# Altium footprint library accessPoint.PcbLib: 19 footprints (part 1 of 2)
Each footprint in its own frame and in the unit in brackets; x right, y up, seen from the top. Pads: shape width x height; smd on the part's side, far side on the other; paste and mask are expansions set on the pad; w line width, h text height; cw(c..) or ccw(c..) is an arc to the next point about the centre after c.
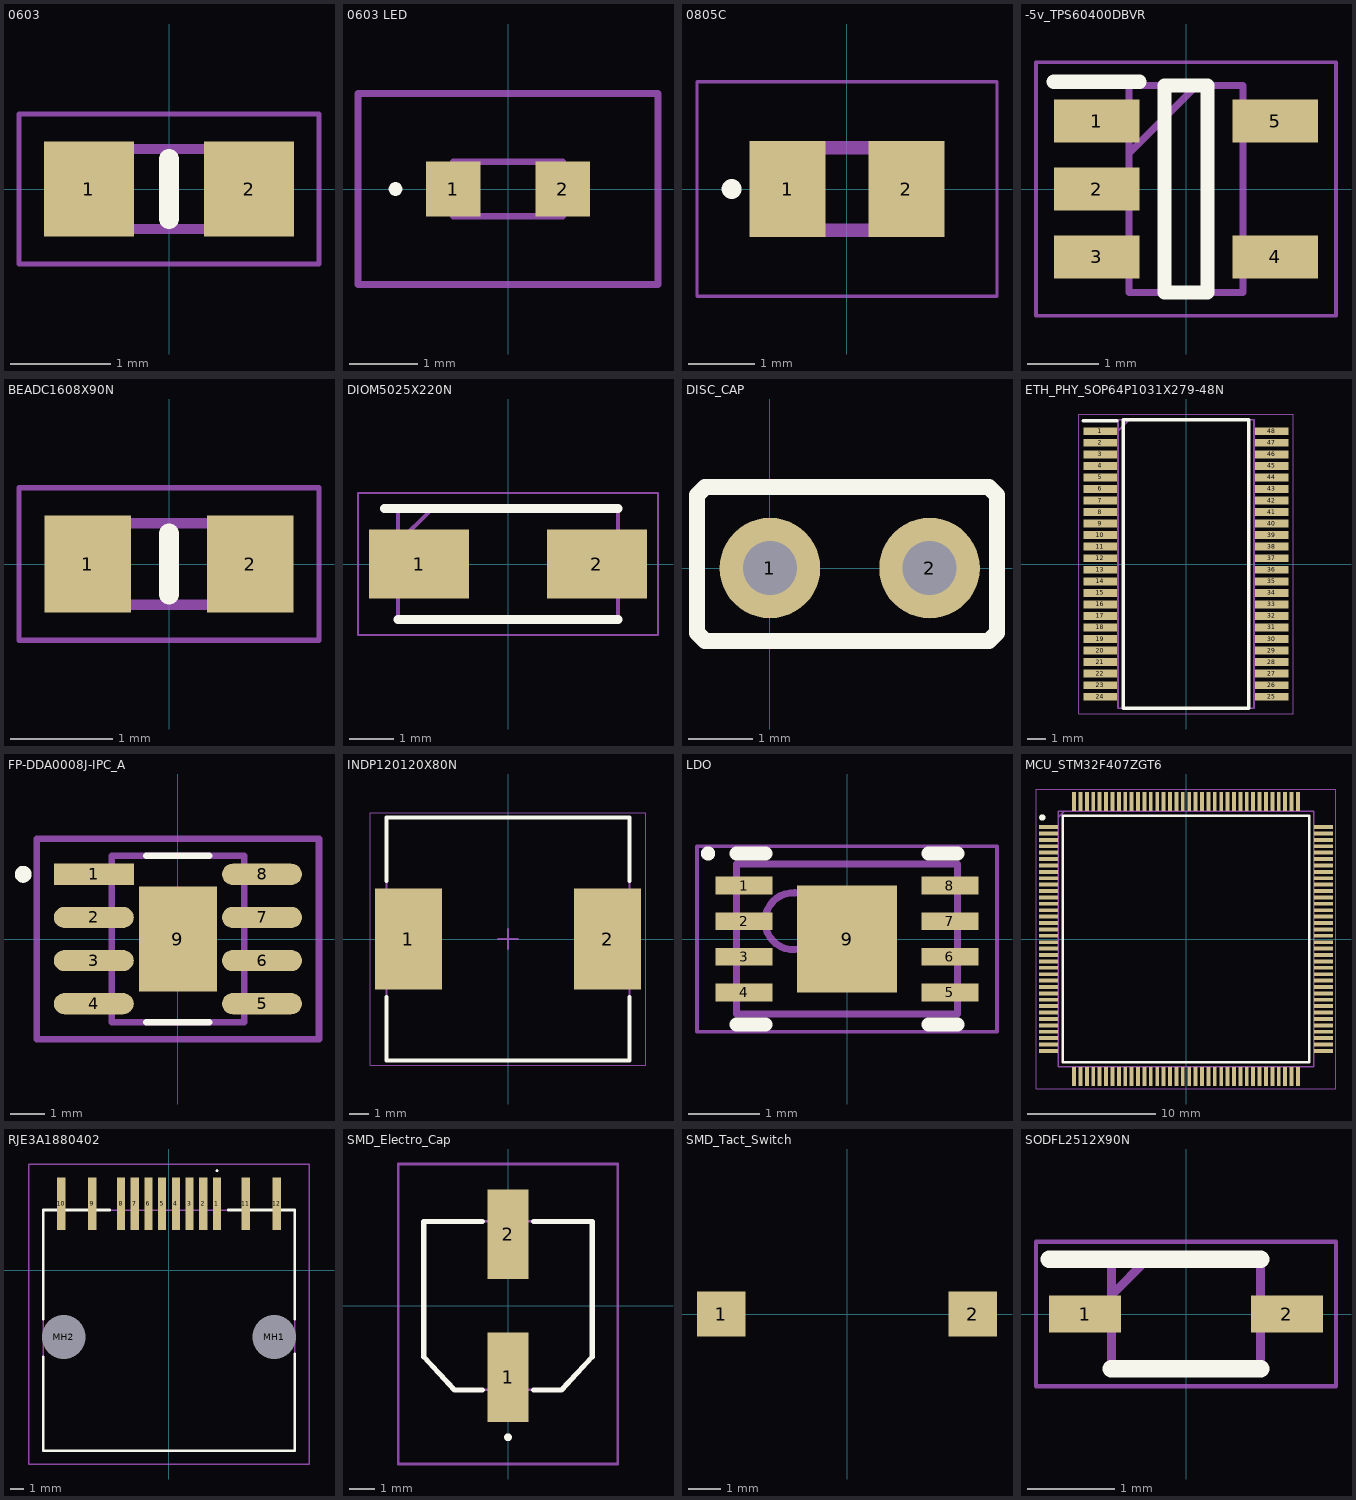
[diagram p0: the footprints below, top view; thin cyan lines are the x and y axes]

## 0603 [mm]
pads (2):
  rect 0.9x0.95 smd: 1(-0.8,0) 2(0.8,0)
Top Overlay:
  lines w0.2: 0,-0.3 0,0.3
Mechanical 13:
  lines w0.1: -0.8,-0.4 0.8,-0.4 0.8,0.4 -0.8,0.4 -0.8,-0.4
Mechanical 15:
  lines w0.05: -1.5,-0.75 1.5,-0.75 1.5,0.75 -1.5,0.75 -1.5,-0.75
3D body "CR0603-J_-9R1ELF.stp": height 0.55, standoff 0, extent -0.8,-0.4 0.8,0.4

## 0603 LED [mm]
pads (2):
  rect 0.8x0.8 smd: 1(-0.8,0) 2(0.8,0)
Top Overlay:
  lines w0.1: -1.7,0 ccw(c-1.65,0) -1.6,0 ccw(c-1.65,0) -1.7,0
Mechanical 13:
  lines w0.1: -0.8,-0.4 -0.8,0.4 0.8,0.4 0.8,-0.4 -0.8,-0.4
Mechanical 15:
  lines w0.1: -2.2,-1.4 -2.2,1.4 2.2,1.4 2.2,-1.4 -2.2,-1.4
3D body "150060VS75003.stp": height 0.9, standoff 0, extent -0.8,-0.4 0.8,0.4

## 0805C [mm]
pads (2):
  rect 1.15x1.45 smd: 1(-0.9,0) 2(0.9,0)
Top Overlay:
  circle w0.2: c-1.75,0 r0.05
Mechanical 13:
  lines w0.2: -1,-0.625 1,-0.625 1,0.625 -1,0.625 -1,-0.625
Mechanical 15:
  lines w0.05: -2.275,-1.625 2.275,-1.625 2.275,1.625 -2.275,1.625 -2.275,-1.625
3D body "C0805C103K1RACTU.stp": height 0.89, standoff 0.01, extent -1.1,-0.762 1.1,0.688

## -5v_TPS60400DBVR [mm]
pads (5):
  rect 1.2x0.6 smd: 1(-1.25,0.95) 2(-1.25,0) 3(-1.25,-0.95) 4(1.25,-0.95) 5(1.25,0.95)
Top Overlay:
  lines w0.2: -1.85,1.5 -0.65,1.5 ; -0.3,-1.45 -0.3,1.45 0.3,1.45 0.3,-1.45 -0.3,-1.45
Mechanical 13:
  lines w0.1: -0.8,0.5 0.15,1.45 ; -0.8,-1.45 -0.8,1.45 0.8,1.45 0.8,-1.45 -0.8,-1.45
Mechanical 15:
  lines w0.05: -2.1,-1.775 -2.1,1.775 2.1,1.775 2.1,-1.775 -2.1,-1.775
3D body "TL431IDBVR.stp": height 1.2, standoff 0, extent -1.4,-1.45 1.4,1.45

## BEADC1608X90N [mm]
pads (2):
  rect 0.85x0.95 smd: 1(-0.8,0) 2(0.8,0)
Top Overlay:
  lines w0.2: 0,-0.3 0,0.3
Mechanical 13:
  lines w0.1: -0.8,-0.4 0.8,-0.4 0.8,0.4 -0.8,0.4 -0.8,-0.4
Mechanical 15:
  lines w0.05: -1.475,-0.75 1.475,-0.75 1.475,0.75 -1.475,0.75 -1.475,-0.75
3D body "Z0603C101BPWZT.stp": height 0.9, standoff 0, extent -0.85,-0.45 0.85,0.45

## DIOM5025X220N [mm]
pads (2):
  rect 2.25x1.55 smd: 1(-2,0) 2(2,0)
Top Overlay:
  lines w0.2: -2.775,1.25 2.475,1.25 ; -2.475,-1.25 2.475,-1.25
Mechanical 13:
  lines w0.1: -2.475,0.475 -1.7,1.25 ; -2.475,-1.25 -2.475,1.25 2.475,1.25 2.475,-1.25 -2.475,-1.25
Mechanical 15:
  lines w0.05: -3.375,-1.6 -3.375,1.6 3.375,1.6 3.375,-1.6 -3.375,-1.6
3D body "SS56-HF.stp": height 2.2, standoff 0, extent -2.475,-1.25 2.475,1.25

## DISC_CAP [mm]
pads (2):
  round 1.575 hole 0.85: 1(0,0) 2(2.5,0)
Top Overlay:
  lines w0.254: -1.143,-1.016 -1.143,1.143 -1.016,1.27 3.429,1.27 3.556,1.143 3.556,-1.016 3.429,-1.143 -1.016,-1.143 -1.143,-1.016

## ETH_PHY_SOP64P1031X279-48N [mm]
pads (48):
  rect 1.85x0.435 smd: 1(-4.725,7.302) 2(-4.725,6.668) 3(-4.725,6.032) 4(-4.725,5.398) 5(-4.725,4.762) 6(-4.725,4.128) 7(-4.725,3.492) 8(-4.725,2.858) 9(-4.725,2.222) 10(-4.725,1.588) 11(-4.725,0.952) 12(-4.725,0.318) 13(-4.725,-0.318) 14(-4.725,-0.952) 15(-4.725,-1.588) 16(-4.725,-2.222) 17(-4.725,-2.858) 18(-4.725,-3.492) 19(-4.725,-4.128) 20(-4.725,-4.762) 21(-4.725,-5.398) 22(-4.725,-6.032) 23(-4.725,-6.668) 24(-4.725,-7.302) 25(4.725,-7.302) 26(4.725,-6.668) 27(4.725,-6.032) 28(4.725,-5.398) 29(4.725,-4.762) 30(4.725,-4.128) 31(4.725,-3.492) 32(4.725,-2.858) 33(4.725,-2.222) 34(4.725,-1.588) 35(4.725,-0.952) 36(4.725,-0.318) 37(4.725,0.318) 38(4.725,0.952) 39(4.725,1.588) 40(4.725,2.222) 41(4.725,2.858) 42(4.725,3.492) 43(4.725,4.128) 44(4.725,4.762) 45(4.725,5.398) 46(4.725,6.032) 47(4.725,6.668) 48(4.725,7.302)
Top Overlay:
  lines w0.2: -5.65,7.87 -3.8,7.87 ; -3.45,-7.938 -3.45,7.938 3.45,7.938 3.45,-7.938 -3.45,-7.938
Mechanical 13:
  lines w0.1: -3.746,7.302 -3.112,7.938 ; -3.746,-7.938 -3.746,7.938 3.746,7.938 3.746,-7.938 -3.746,-7.938
Mechanical 15:
  lines w0.05: -5.9,-8.251 -5.9,8.251 5.9,8.251 5.9,-8.251 -5.9,-8.251
3D body "KSZ8721B.stp": height 2.79, standoff 0, extent -5.156,-7.938 5.156,7.938

## FP-DDA0008J-IPC_A [mm]
pads (9):
  rect 2.353x0.622 smd paste+0 mask+0: 1(-2.477,1.905)
  rrect100% 2.353x0.622 smd paste+0 mask+0: 2(-2.477,0.635) 3(-2.477,-0.635) 4(-2.477,-1.905) 5(2.477,-1.905) 6(2.477,-0.635) 7(2.477,0.635) 8(2.477,1.905)
  rect 2.3x3.1 smd paste-1000 mask+0: 9(0,0)
Top Overlay:
  circle w0.25: c-4.553,1.905 r0.125
  lines w0.2: -0.925,-2.45 0.925,-2.45 ; -0.925,2.45 0.925,2.45
Top Paste:
  rectangle: -0.668,-1.068 0.668,1.068
Top 3D Body:
  lines w0.2: -1.95,-2.45 1.95,-2.45 1.95,2.45 -1.95,2.45 -1.95,-2.45
Top Courtyard:
  lines w0.2: -4.153,-2.95 4.153,-2.95 4.153,2.95 -4.153,2.95 -4.153,-2.95
Top Assembly:
  lines w0.2: -4.153,-2.95 4.153,-2.95 4.153,2.95 -4.153,2.95 -4.153,-2.95
  text ".Designator" at 0,-0.001 h1
Top Component Center:
  lines w0.1: -0.5,0 0.5,0 ; 0,-0.5 0,0.5
3D body "IC_Texas_Instruments_TPS5430DDA_eec.STEP": height 0.25, standoff 0, extent -4.153,-2.95 4.153,2.95

## INDP120120X80N [mm] "Precision Wire Wound Inductor, 2-Leads, Body 12.00x12.00mm, IPC Medium Density"
height 8
pads (2):
  rect 3.4x5.1 smd: 1(-5.05,0) 2(5.05,0)
Top Overlay:
  lines w0.2: -6.15,-2.95 -6.15,-6.15 6.15,-6.15 6.15,-2.95 ; -6.15,2.95 -6.15,6.15 6.15,6.15 6.15,2.95
Top Courtyard:
  lines w0.05: -6.975,-6.4 6.975,-6.4 6.975,6.4 -6.975,6.4 -6.975,-6.4
  lines w0.1: -0.5,0 0.5,0 ; 0,-0.5 0,0.5
Top Assembly:
  lines w0.1: -6.15,-6.15 6.15,-6.15 6.15,6.15 -6.15,6.15 -6.15,-6.15
3D body "INDP120120X80N.step": height 8.1, standoff 0, extent -6.1,-6 6.1,6

## LDO [mm] "SON, 8-Leads, Body 2.00x3.00mm, Pitch 0.50mm, Thermal Pad 1.50x1.40mm, IPC Medium Density"
height 0.6
pads (9):
  rect 0.8x0.25 smd mask+0.05: 1(-1.445,0.75) 2(-1.445,0.25) 3(-1.445,-0.25) 4(-1.445,-0.75) 5(1.445,-0.75) 6(1.445,-0.25) 7(1.445,0.25) 8(1.445,0.75)
  rect 1.4x1.5 smd mask+0.05: 9(0,0)
Top Overlay:
  circle w0.1: c-1.95,1.2 r0.05
  lines w0.2: -1.55,-1.2 -1.145,-1.2 ; -1.55,1.2 -1.145,1.2 ; 1.145,-1.2 1.55,-1.2 ; 1.145,1.2 1.55,1.2
Mechanical 13:
  circle w0.1: c-0.75,0.25 r0.4
  lines w0.1: -1.55,-1.05 1.55,-1.05 1.55,1.05 -1.55,1.05 -1.55,-1.05
Mechanical 15:
  lines w0.05: -2.105,-1.3 2.105,-1.3 2.105,1.3 -2.105,1.3 -2.105,-1.3
  lines w0.1: -0.5,0 0.5,0 ; 0,-0.5 0,0.5
3D body "SON50P300X60_HS-9N.step": height 0.6, standoff 0, extent -1.63,-1.05 1.63,1.05

## MCU_STM32F407ZGT6 [mm]
pads (144):
  rect 1.475x0.3 smd: 1(-10.738,8.75) 2(-10.738,8.25) 3(-10.738,7.75) 4(-10.738,7.25) 5(-10.738,6.75) 6(-10.738,6.25) 7(-10.738,5.75) 8(-10.738,5.25) 9(-10.738,4.75) 10(-10.738,4.25) 11(-10.738,3.75) 12(-10.738,3.25) 13(-10.738,2.75) 14(-10.738,2.25) 15(-10.738,1.75) 16(-10.738,1.25) 17(-10.738,0.75) 18(-10.738,0.25) 19(-10.738,-0.25) 20(-10.738,-0.75) 21(-10.738,-1.25) 22(-10.738,-1.75) 23(-10.738,-2.25) 24(-10.738,-2.75) 25(-10.738,-3.25) 26(-10.738,-3.75) 27(-10.738,-4.25) 28(-10.738,-4.75) 29(-10.738,-5.25) 30(-10.738,-5.75) 31(-10.738,-6.25) 32(-10.738,-6.75) 33(-10.738,-7.25) 34(-10.738,-7.75) 35(-10.738,-8.25) 36(-10.738,-8.75) 73(10.738,-8.75) 74(10.738,-8.25) 75(10.738,-7.75) 76(10.738,-7.25) 77(10.738,-6.75) 78(10.738,-6.25) 79(10.738,-5.75) 80(10.738,-5.25) 81(10.738,-4.75) 82(10.738,-4.25) 83(10.738,-3.75) 84(10.738,-3.25) 85(10.738,-2.75) 86(10.738,-2.25) 87(10.738,-1.75) 88(10.738,-1.25) 89(10.738,-0.75) 90(10.738,-0.25) 91(10.738,0.25) 92(10.738,0.75) 93(10.738,1.25) 94(10.738,1.75) 95(10.738,2.25) 96(10.738,2.75) 97(10.738,3.25) 98(10.738,3.75) 99(10.738,4.25) 100(10.738,4.75) 101(10.738,5.25) 102(10.738,5.75) 103(10.738,6.25) 104(10.738,6.75) 105(10.738,7.25) 106(10.738,7.75) 107(10.738,8.25) 108(10.738,8.75)
  rect 0.3x1.475 smd: 37(-8.75,-10.738) 38(-8.25,-10.738) 39(-7.75,-10.738) 40(-7.25,-10.738) 41(-6.75,-10.738) 42(-6.25,-10.738) 43(-5.75,-10.738) 44(-5.25,-10.738) 45(-4.75,-10.738) 46(-4.25,-10.738) 47(-3.75,-10.738) 48(-3.25,-10.738) 49(-2.75,-10.738) 50(-2.25,-10.738) 51(-1.75,-10.738) 52(-1.25,-10.738) 53(-0.75,-10.738) 54(-0.25,-10.738) 55(0.25,-10.738) 56(0.75,-10.738) 57(1.25,-10.738) 58(1.75,-10.738) 59(2.25,-10.738) 60(2.75,-10.738) 61(3.25,-10.738) 62(3.75,-10.738) 63(4.25,-10.738) 64(4.75,-10.738) 65(5.25,-10.738) 66(5.75,-10.738) 67(6.25,-10.738) 68(6.75,-10.738) 69(7.25,-10.738) 70(7.75,-10.738) 71(8.25,-10.738) 72(8.75,-10.738) 109(8.75,10.738) 110(8.25,10.738) 111(7.75,10.738) 112(7.25,10.738) 113(6.75,10.738) 114(6.25,10.738) 115(5.75,10.738) 116(5.25,10.738) 117(4.75,10.738) 118(4.25,10.738) 119(3.75,10.738) 120(3.25,10.738) 121(2.75,10.738) 122(2.25,10.738) 123(1.75,10.738) 124(1.25,10.738) 125(0.75,10.738) 126(0.25,10.738) 127(-0.25,10.738) 128(-0.75,10.738) 129(-1.25,10.738) 130(-1.75,10.738) 131(-2.25,10.738) 132(-2.75,10.738) 133(-3.25,10.738) 134(-3.75,10.738) 135(-4.25,10.738) 136(-4.75,10.738) 137(-5.25,10.738) 138(-5.75,10.738) 139(-6.25,10.738) 140(-6.75,10.738) 141(-7.25,10.738) 142(-7.75,10.738) 143(-8.25,10.738) 144(-8.75,10.738)
Top Overlay:
  circle w0.25: c-11.225,9.5 r0.125
  lines w0.2: -9.65,-9.65 9.65,-9.65 9.65,9.65 -9.65,9.65 -9.65,-9.65
Mechanical 13:
  lines w0.1: -10,9.5 -9.5,10 ; -10,-10 10,-10 10,10 -10,10 -10,-10
Mechanical 15:
  lines w0.05: -11.725,-11.725 11.725,-11.725 11.725,11.725 -11.725,11.725 -11.725,-11.725
3D body "STM32F407ZGT6.stp": height 1.6, standoff 0, extent -11,-11 11,11

## RJE3A1880402 [mm]
pads (14):
  rect 0.61x3.9 smd: 1(3.57,4.965) 2(2.55,4.965) 3(1.53,4.965) 4(0.51,4.965) 5(-0.51,4.965) 6(-1.53,4.965) 7(-2.55,4.965) 8(-3.57,4.965) 9(-5.72,4.965) 10(-8.02,4.965) 11(5.72,4.965) 12(8.02,4.965)
  round 1.625 hole 3.25 unplated: MH1(7.83,-4.965) MH2(-7.83,-4.965)
Top Overlay:
  lines w0.1: 3.57,7.375 ccw(c3.57,7.425) 3.57,7.475 ccw(c3.57,7.425) 3.57,7.375
  lines w0.2: -9.35,-6.425 -9.35,-13.415 9.35,-13.425 9.35,-6.225 ; -9.35,-3.625 -9.35,4.485 -4.4,4.485 ; 4.4,4.485 9.35,4.485 9.35,-3.625
Mechanical 13:
  lines w0.1: -9.35,-13.415 9.35,-13.415 9.35,4.485 -9.35,4.485 -9.35,-13.415
Mechanical 15:
  lines w0.1: -10.455,-14.415 10.455,-14.415 10.455,7.915 -10.455,7.915 -10.455,-14.415
3D body "RJE3A1880412--3DModel-STEP-533217.STEP": height 13.3, standoff -1.26, extent -9.653,-13.606 9.653,6.096

## SMD_Electro_Cap [mm]
pads (2):
  rect 1.6x3.5 smd: 1(0,-2.8) 2(0,2.8)
Top Overlay:
  lines w0.2: -1,-3.3 -2.1,-3.3 -3.3,-2 -3.3,3.3 -1,3.3 ; 1,-3.3 2.1,-3.3 3.3,-2 3.3,3.3 1,3.3 ; 0,-5.2 ccw(c0,-5.15) 0,-5.1 ; 0,-5.2 cw(c0,-5.15) 0,-5.1 ; 0,-5.2 ccw(c0,-5.15) 0,-5.1
Mechanical 13:
  lines w0.1: -3.3,-2 -2.1,-3.3 0,-3.3 2.1,-3.3 3.3,-2 3.3,-0.825 3.3,3.3 -3.3,3.3 -3.3,-0.825 -3.3,-2
Mechanical 15:
  lines w0.1: -4.3,-6.2 4.3,-6.2 4.3,5.55 -4.3,5.55 -4.3,-6.2
3D body "model2.step": height 7.91, standoff 0.01, extent -3.3,-3.65 3.3,3.65
3D body "16SVPG270MX.stp": height 0.4, standoff 0.4, extent 0,0 0,0

## SMD_Tact_Switch [mm]
pads (2):
  rect 1.5x1.4 smd: 1(-3.9,0) 2(3.9,0)
3D body "User Library-TL3302BF180QC-1.step": height 5.01, standoff 0.01, extent -5.2,-1.8 5.2,1.7

## SODFL2512X90N [mm]
pads (2):
  rect 0.82x0.42 smd: 1(-1.15,0) 2(1.15,0)
Top Overlay:
  lines w0.2: -1.56,0.625 0.85,0.625 ; -0.85,-0.625 0.85,-0.625
Mechanical 13:
  lines w0.1: -0.85,0.215 -0.44,0.625 ; -0.85,-0.625 0.85,-0.625 0.85,0.625 -0.85,0.625 -0.85,-0.625
Mechanical 15:
  lines w0.05: -1.71,-0.825 1.71,-0.825 1.71,0.825 -1.71,0.825 -1.71,-0.825
3D body "1N4148WS.stp": height 0.9, standoff 0, extent -1.25,-0.625 1.25,0.625